# Altium footprint library 插座.PcbLib: 91 footprints (part 5 of 6)
Each footprint in its own frame and in the unit in brackets; x right, y up, seen from the top. Pads: shape width x height; smd on the part's side, far side on the other; paste and mask are expansions set on the pad; w line width, h text height; cw(c..) or ccw(c..) is an arc to the next point about the centre after c.
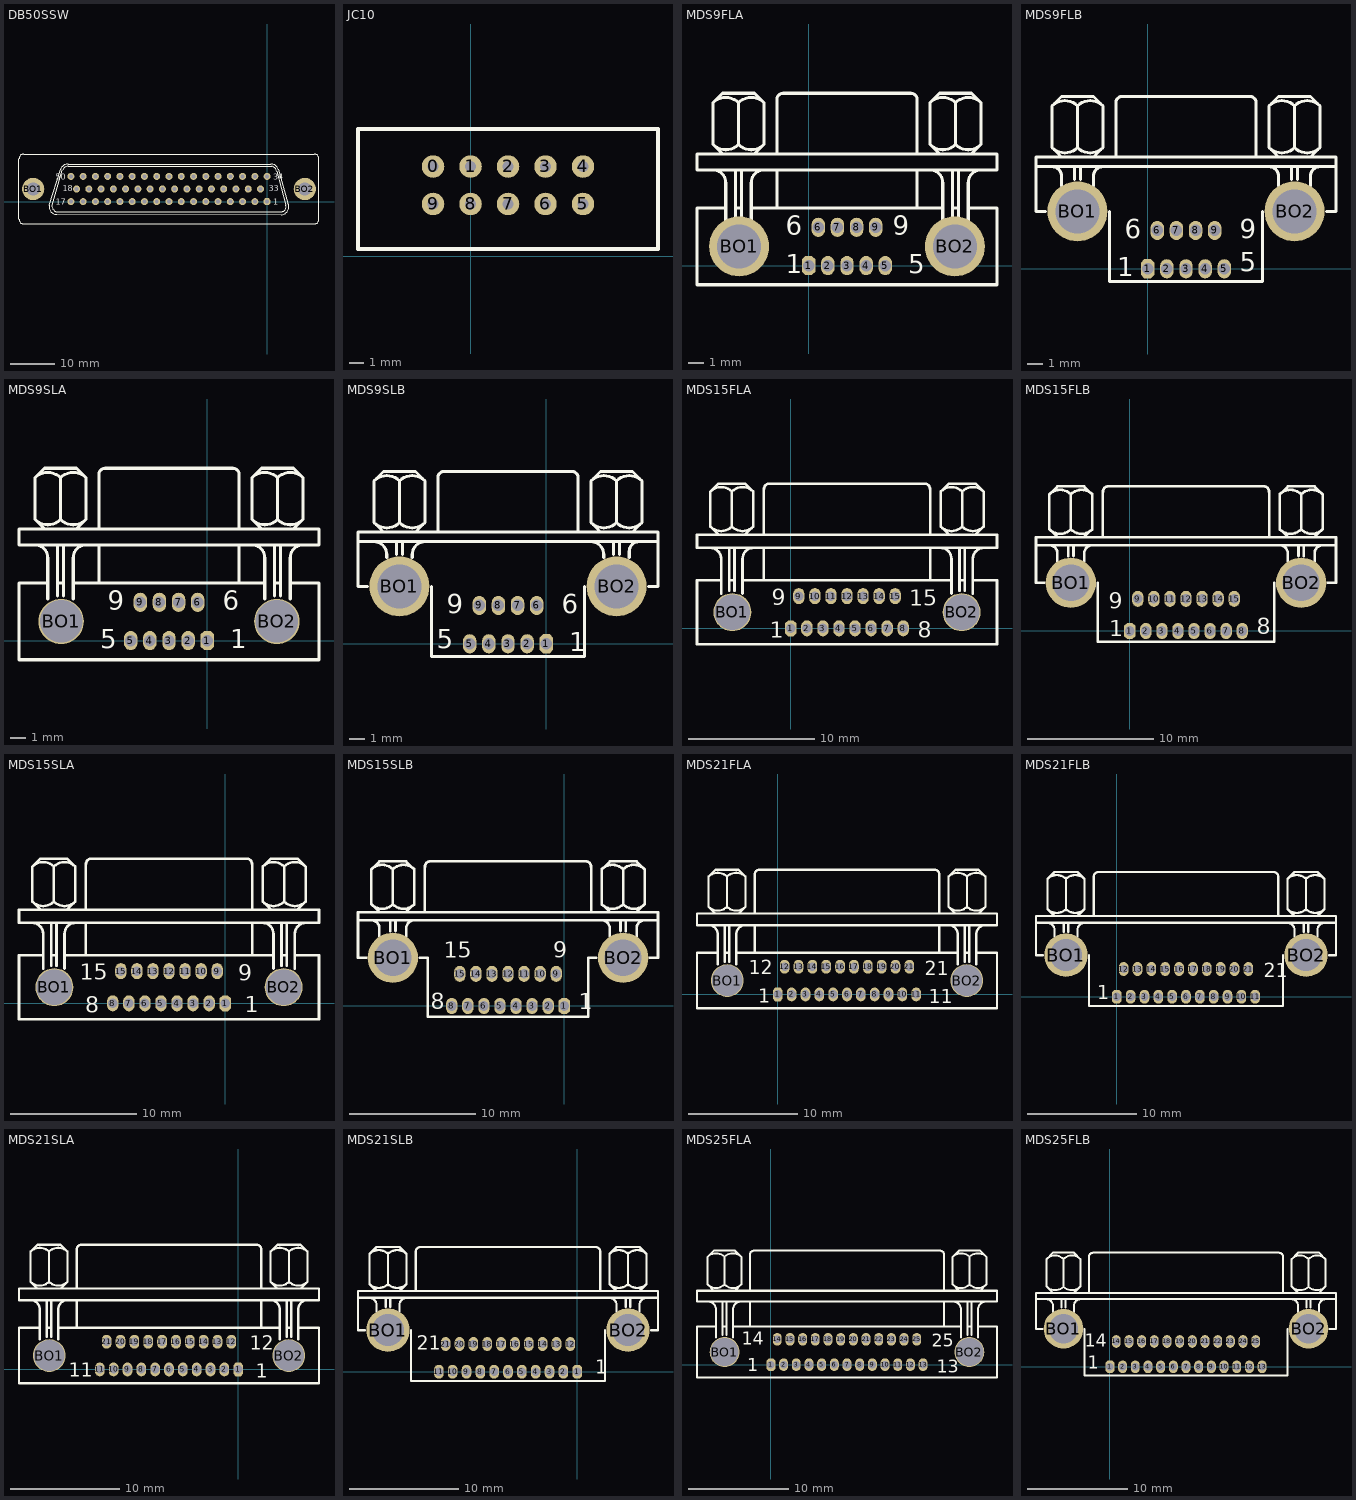
[diagram p4: the footprints below, top view; thin cyan lines are the x and y axes]

## DB50SSW [mil]
pads (52):
  oct 62x62 hole 35: 1(0,0)
  round 62 hole 35: 2(-108.33,0) 3(-216.67,0) 4(-325,0) 5(-433.33,0) 6(-541.67,0) 7(-650,0) 8(-758.33,0) 9(-866.67,0) 10(-975,0) 11(-1083.33,0) 12(-1191.67,0) 13(-1300,0) 14(-1408.33,0) 15(-1516.67,0) 16(-1625,0) 17(-1733.33,0) 18(-1683.33,111.67) 19(-1575,111.67) 20(-1466.67,111.67) 21(-1358.33,111.67) 22(-1250,111.67) 23(-1141.67,111.67) 24(-1033.33,111.67) 25(-925,111.67) 26(-816.67,111.67) 27(-708.33,111.67) 28(-600,111.67) 29(-491.67,111.67) 30(-383.33,111.67) 31(-275,111.67) 32(-166.67,111.67) 33(-58.33,111.67) 34(0,223.33) 35(-108.33,223.33) 36(-216.67,223.33) 37(-325,223.33) 38(-433.33,223.33) 39(-541.67,223.33) 40(-650,223.33) 41(-758.33,223.33) 42(-866.67,223.33) 43(-975,223.33) 44(-1083.33,223.33) 45(-1191.67,223.33) 46(-1300,223.33) 47(-1408.33,223.33) 48(-1516.67,223.33) 49(-1625,223.33) 50(-1733.33,223.33)
  round 196.67 hole 118.33: BO1(-2066.67,111.67) BO2(333.33,111.67)
TopOverlay:
  lines w8: -1923.33,-31.67 -1825,286.67 ; -1923.02,-30.54 ccw(c-1858.33,-46.67) -1858.33,-113.33 125,-115 ; -1900.21,-30.38 ccw(c-1850,-38.33) -1859.7,-88.23 ; -1900,-30 -1808.33,278.33 ; -1866.67,-88.33 133.33,-88.33 ; -1824.46,287.05 cw(c-1758.33,261.67) -1758.33,332.5 ; -1804.69,280.4 cw(c-1758.33,261.67) -1758.33,311.67 41.67,311.67 ; -1758.33,331.67 33.33,331.67 ; 33.33,332.5 cw(c33.33,261.67) 99.46,287.05 ; 40.41,312 cw(c33.33,261.67) 83.54,269.62 ; 83.33,270 166.67,-30 ; 100,286.67 183.33,-13.33 ; 125,-114.17 ccw(c125,-46.67) 183.46,-12.92 ; 133.11,-88.39 ccw(c125,-46.67) 164.41,-30.75 ; -2191.66,-155 ccw(c-2150,-155) -2150,-196.67 416.67,-196.67 ccw(c416.67,-155) 458.33,-155 458.33,378.33 ccw(c416.67,378.33) 416.67,420 -2150,420 ccw(c-2150,378.33) -2191.66,378.33 -2191.67,-155
  text "17" at -1866.67,-28.33 h50
  text "50" at -1866.67,191.67 h50
  text "18" at -1806.67,91.67 h50
  text "1" at 53.33,-28.33 h50
  text "33" at 13.33,91.67 h50
  text "34" at 53.33,191.67 h50

## JC10 [mil]
pads (10):
  round 60 hole 30: 0(-100,240) 1(0,240) 2(100,240) 3(200,240) 4(300,240) 5(300,140) 6(200,140) 7(100,140) 8(0,140) 9(-100,140)
TopOverlay:
  lines w10: -300,20 500,20 500,340 480,340 -300,340 -300,20

## MDS9FLA [mil]
pads (11):
  oct 35x50 hole 30: 1(0,0)
  oval 35x50 hole 30: 2(50,0) 3(100,0) 4(150,0) 5(200,0) 6(25,100) 7(75,100) 8(125,100) 9(175,100)
  round 156.67 hole 115: BO1(-181.67,50) BO2(381.67,50)
TopOverlay:
  lines w8: -250.25,316.41 ccw(c-216.67,350) -183.08,316.41 ; -250.25,425.25 cw(c-216.67,391.67) -183.08,425.25 ; -250,250 cw(c-250,216.67) -216.67,216.67 -216.67,108.33 ; -225,291.67 -250,316.67 -250,425 -225,450 -141.67,450 -116.67,425 -116.67,316.67 -141.67,291.67 ; -216.67,150 -291.67,150 -291.67,-50 491.67,-50 491.67,150 416.67,150 ; -191.67,116.67 -191.67,250 ; -191.67,150 -175,150 ; -183.59,316.41 ccw(c-150,350) -116.41,316.41 ; -183.59,425.25 cw(c-150,391.67) -116.41,425.25 ; -183.33,316.67 -183.33,425 ; -175,116.67 -175,250 ; -150,108.33 -150,216.67 cw(c-116.67,216.67) -116.67,250 ; -150,150 350,150 ; -83.33,150 -83.33,250 ; -83.33,291.67 -83.33,433.33 cw(c-66.67,433.33) -66.67,450 266.67,450 cw(c266.67,433.33) 283.33,433.33 283.33,291.67 275,291.67 ; 283.33,150 283.33,250 ; 316.41,316.41 ccw(c350,350) 383.59,316.41 ; 316.41,425.25 cw(c350,391.67) 383.59,425.25 ; 316.67,250 cw(c316.67,216.67) 350,216.67 350,108.33 ; 341.67,291.67 316.67,316.67 316.67,425 341.67,450 425,450 450,425 450,316.67 425,291.67 ; 375,116.67 375,250 ; 375,150 391.67,150 ; 383.08,316.41 ccw(c416.67,350) 450.25,316.41 ; 383.08,425.25 cw(c416.67,391.67) 450.25,425.25 ; 383.33,316.67 383.33,425 ; 391.67,116.67 391.67,250 ; 416.67,108.33 416.67,216.67 cw(c450,216.67) 450,250 ; -291.67,250 -291.67,291.67 491.67,291.67 491.67,250 -291.67,250
  text "6" at -60,80 h50
  text "5" at 260,-20 h50
  text "9" at 220,80 h50
  text "1" at -60,-20 h50

## MDS9FLB [mil]
pads (11):
  oct 35x50 hole 30: 1(0,0)
  oval 35x50 hole 30: 2(50,0) 3(100,0) 4(150,0) 5(200,0) 6(25,100) 7(75,100) 8(125,100) 9(175,100)
  round 156.67 hole 115: BO1(-183.33,150) BO2(383.33,150)
TopOverlay:
  lines w8: -266.67,150 -291.67,150 -291.67,266.67 ; -250.25,316.41 ccw(c-216.67,350) -183.08,316.41 ; -250.25,425.25 cw(c-216.67,391.67) -183.08,425.25 ; -250,266.67 cw(c-250,241.67) -225,241.67 -225,216.67 ; -225,291.67 -250,316.67 -250,425 -225,450 -141.67,450 -116.67,425 -116.67,316.67 -141.67,291.67 ; -191.67,233.33 -191.67,266.67 ; -183.59,316.41 ccw(c-150,350) -116.41,316.41 ; -183.59,425.25 cw(c-150,391.67) -116.41,425.25 ; -183.33,316.67 -183.33,425 ; -175,233.33 -175,266.67 ; -141.67,216.67 -141.67,241.67 cw(c-116.67,241.67) -116.67,266.67 ; -100,150 -100,-33.33 300,-33.33 300,150 ; -83.33,291.67 -83.33,433.33 cw(c-66.67,433.33) -66.67,450 266.67,450 cw(c266.67,433.33) 283.33,433.33 283.33,291.67 275,291.67 ; 316.41,316.41 ccw(c350,350) 383.59,316.41 ; 316.41,425.25 cw(c350,391.67) 383.59,425.25 ; 316.67,266.67 cw(c316.67,241.67) 341.67,241.67 341.67,216.67 ; 341.67,291.67 316.67,316.67 316.67,425 341.67,450 425,450 450,425 450,316.67 425,291.67 ; 375,233.33 375,266.67 ; 383.08,316.41 ccw(c416.67,350) 450.25,316.41 ; 383.08,425.25 cw(c416.67,391.67) 450.25,425.25 ; 383.33,316.67 383.33,425 ; 391.67,233.33 391.67,266.67 ; 425,216.67 425,241.67 cw(c450,241.67) 450,266.67 ; 466.67,150 491.67,150 491.67,266.67 ; -291.67,266.67 -291.67,291.67 491.67,291.67 491.67,266.67 ; -291.67,266.67 491.67,266.67
  text "9" at 240,80 h50
  text "6" at -60,80 h50
  text "1" at -80,-20 h50
  text "5" at 240.94,-6.59 h50

## MDS9SLA [mil]
pads (11):
  oct 35x50 hole 30: 1(0,0)
  oval 35x50 hole 30: 2(-50,0) 3(-100,0) 4(-150,0) 5(-200,0) 6(-25,100) 7(-75,100) 8(-125,100) 9(-175,100)
  round 118.33 hole 110.83: BO1(-381.67,50) BO2(181.67,50)
TopOverlay:
  lines w8: -450.25,316.41 ccw(c-416.67,350) -383.08,316.41 ; -450.25,425.25 cw(c-416.67,391.67) -383.08,425.25 ; -450,250 cw(c-450,216.67) -416.67,216.67 -416.67,108.33 ; -425,291.67 -450,316.67 -450,425 -425,450 -341.67,450 -316.67,425 -316.67,316.67 -341.67,291.67 ; -416.67,150 -491.67,150 -491.67,-50 291.67,-50 291.67,150 216.67,150 ; -391.67,116.67 -391.67,250 ; -391.67,150 -375,150 ; -383.59,316.41 ccw(c-350,350) -316.41,316.41 ; -383.59,425.25 cw(c-350,391.67) -316.41,425.25 ; -383.33,316.67 -383.33,425 ; -375,116.67 -375,250 ; -350,108.33 -350,216.67 cw(c-316.67,216.67) -316.67,250 ; -350,150 150,150 ; -283.33,150 -283.33,250 ; -283.33,291.67 -283.33,433.33 cw(c-266.67,433.33) -266.67,450 66.67,450 cw(c66.67,433.33) 83.33,433.33 83.33,291.67 75,291.67 ; 83.33,150 83.33,250 ; 116.41,316.41 ccw(c150,350) 183.59,316.41 ; 116.41,425.25 cw(c150,391.67) 183.59,425.25 ; 116.67,250 cw(c116.67,216.67) 150,216.67 150,108.33 ; 141.67,291.67 116.67,316.67 116.67,425 141.67,450 225,450 250,425 250,316.67 225,291.67 ; 175,116.67 175,250 ; 175,150 191.67,150 ; 183.08,316.41 ccw(c216.67,350) 250.25,316.41 ; 183.08,425.25 cw(c216.67,391.67) 250.25,425.25 ; 183.33,316.67 183.33,425 ; 191.67,116.67 191.67,250 ; 216.67,108.33 216.67,216.67 cw(c250,216.67) 250,250 ; -491.67,250 291.67,250 291.67,291.67 -491.67,291.67 -491.67,250
  text "6" at 40,80 h50
  text "9" at -260,80 h50
  text "5" at -280,-20 h50
  text "1" at 60,-20 h50

## MDS9SLB [mil]
pads (11):
  oct 35x50 hole 30: 1(0,0)
  oval 35x50 hole 30: 2(-50,0) 3(-100,0) 4(-150,0) 5(-200,0) 6(-25,100) 7(-75,100) 8(-125,100) 9(-175,100)
  round 156.67 hole 115: BO1(-383.33,150) BO2(183.33,150)
TopOverlay:
  lines w8: -466.67,150 -491.67,150 -491.67,266.67 ; -450.25,316.41 ccw(c-416.67,350) -383.08,316.41 ; -450.25,425.25 cw(c-416.67,391.67) -383.08,425.25 ; -450,266.67 cw(c-450,233.33) -416.67,233.33 -416.67,225 ; -425,291.67 -450,316.67 -450,425 -425,450 -341.67,450 -316.67,425 -316.67,316.67 -341.67,291.67 ; -391.67,233.33 -391.67,266.67 ; -383.59,316.41 ccw(c-350,350) -316.41,316.41 ; -383.59,425.25 cw(c-350,391.67) -316.41,425.25 ; -383.33,316.67 -383.33,425 ; -375,233.33 -375,266.67 ; -350,225 -350,233.33 cw(c-316.67,233.33) -316.67,266.67 ; -300,150 -300,-33.33 100,-33.33 100,150 ; -283.33,291.67 -283.33,433.33 cw(c-266.67,433.33) -266.67,450 66.67,450 cw(c66.67,433.33) 83.33,433.33 83.33,291.67 75,291.67 ; 116.41,316.41 ccw(c150,350) 183.59,316.41 ; 116.41,425.25 cw(c150,391.67) 183.59,425.25 ; 116.67,266.67 cw(c116.67,233.33) 150,233.33 150,225 ; 141.67,291.67 116.67,316.67 116.67,425 141.67,450 225,450 250,425 250,316.67 225,291.67 ; 175,233.33 175,266.67 ; 183.08,316.41 ccw(c216.67,350) 250.25,316.41 ; 183.08,425.25 cw(c216.67,391.67) 250.25,425.25 ; 183.33,316.67 183.33,425 ; 191.67,233.33 191.67,266.67 ; 216.67,225 216.67,241.67 cw(c241.67,241.67) 241.67,266.67 ; 266.67,150 291.67,150 291.67,266.67 ; -491.67,266.67 -491.67,291.67 291.67,291.67 291.67,266.67 ; -491.67,266.67 291.67,266.67
  text "5" at -286.05,-11.4 h50
  text "1" at 60,-20 h50
  text "9" at -260,80 h50
  text "6" at 40,80 h50

## MDS15FLA [mil]
pads (17):
  oct 35x50 hole 30: 1(0,0)
  oval 35x50 hole 30: 2(50,0) 3(100,0) 4(150,0) 5(200,0) 6(250,0) 7(300,0) 8(350,0) 9(25,100) 10(75,100) 11(125,100) 12(175,100) 13(225,100) 14(275,100) 15(325,100)
  round 118.33 hole 110.83: BO1(-181.67,50) BO2(531.67,50)
TopOverlay:
  lines w8: -250.25,316.41 ccw(c-216.67,350) -183.08,316.41 ; -250.25,425.25 cw(c-216.67,391.67) -183.08,425.25 ; -250,250 cw(c-250,216.67) -216.67,216.67 -216.67,108.33 ; -225,291.67 -250,316.67 -250,425 -225,450 -141.67,450 -116.67,425 -116.67,316.67 -141.67,291.67 ; -216.67,150 -291.67,150 -291.67,-50 641.67,-50 641.67,150 566.67,150 ; -191.67,116.67 -191.67,250 ; -191.67,150 -175,150 ; -183.59,316.41 ccw(c-150,350) -116.41,316.41 ; -183.59,425.25 cw(c-150,391.67) -116.41,425.25 ; -183.33,316.67 -183.33,425 ; -175,116.67 -175,250 ; -150,108.33 -150,216.67 cw(c-116.67,216.67) -116.67,250 ; -150,150 500,150 ; -83.33,150 -83.33,250 ; -83.33,291.67 -83.33,433.33 cw(c-66.67,433.33) -66.67,450 416.67,450 cw(c416.67,433.33) 433.33,433.33 433.33,291.67 425,291.67 ; 433.33,150 433.33,250 ; 466.41,316.41 ccw(c500,350) 533.59,316.41 ; 466.41,425.25 cw(c500,391.67) 533.59,425.25 ; 466.67,250 cw(c466.67,216.67) 500,216.67 500,108.33 ; 491.67,291.67 466.67,316.67 466.67,425 491.67,450 575,450 600,425 600,316.67 575,291.67 ; 525,116.67 525,250 ; 525,150 541.67,150 ; 533.08,316.41 ccw(c566.67,350) 600.25,316.41 ; 533.08,425.25 cw(c566.67,391.67) 600.25,425.25 ; 533.33,316.67 533.33,425 ; 541.67,116.67 541.67,250 ; 566.67,108.33 566.67,216.67 cw(c600,216.67) 600,250 ; -291.67,250 641.67,250 641.67,291.67 -291.67,291.67 -291.67,250
  text "15" at 368.7,69.7 h50
  text "8" at 395,-30 h50
  text "1" at -65,-30 h50
  text "9" at -58.7,72 h50

## MDS15FLB [mil]
pads (17):
  oct 35x50 hole 30: 1(0,0)
  oval 35x50 hole 30: 2(50,0) 3(100,0) 4(150,0) 5(200,0) 6(250,0) 7(300,0) 8(350,0) 9(25,100) 10(75,100) 11(125,100) 12(175,100) 13(225,100) 14(275,100) 15(325,100)
  round 156.67 hole 115: BO1(-183.33,150) BO2(533.33,150)
TopOverlay:
  lines w8: -266.67,150 -291.67,150 -291.67,266.67 ; -250.25,316.41 ccw(c-216.67,350) -183.08,316.41 ; -250.25,425.25 cw(c-216.67,391.67) -183.08,425.25 ; -250,266.67 cw(c-250,241.67) -225,241.67 -225,216.67 ; -225,291.67 -250,316.67 -250,425 -225,450 -141.67,450 -116.67,425 -116.67,316.67 -141.67,291.67 ; -191.67,233.33 -191.67,266.67 ; -183.59,316.41 ccw(c-150,350) -116.41,316.41 ; -183.59,425.25 cw(c-150,391.67) -116.41,425.25 ; -183.33,316.67 -183.33,425 ; -175,233.33 -175,266.67 ; -141.67,216.67 -141.67,241.67 cw(c-116.67,241.67) -116.67,266.67 ; -100,150 -100,-33.33 450,-33.33 450,150 ; -83.33,291.67 -83.33,433.33 cw(c-66.67,433.33) -66.67,450 416.67,450 cw(c416.67,433.33) 433.33,433.33 433.33,291.67 425,291.67 ; 466.41,316.41 ccw(c500,350) 533.59,316.41 ; 466.41,425.25 cw(c500,391.67) 533.59,425.25 ; 466.67,266.67 cw(c466.67,241.67) 491.67,241.67 491.67,216.67 ; 491.67,291.67 466.67,316.67 466.67,425 491.67,450 575,450 600,425 600,316.67 575,291.67 ; 525,233.33 525,266.67 ; 533.08,316.41 ccw(c566.67,350) 600.25,316.41 ; 533.08,425.25 cw(c566.67,391.67) 600.25,425.25 ; 533.33,316.67 533.33,425 ; 541.67,233.33 541.67,266.67 ; 575,216.67 575,241.67 cw(c600,241.67) 600,266.67 ; 616.67,150 641.67,150 641.67,266.67 ; -291.67,266.67 641.67,266.67 ; -291.67,266.67 -291.67,291.67 641.67,291.67 641.67,266.67
  text "8" at 395,-10 h50
  text "1" at -63.5,-16.8 h50
  text "9" at -64.7,69.7 h50

## MDS15SLA [mil]
pads (17):
  oct 35x50 hole 30: 1(0,0)
  oval 35x50 hole 30: 2(-50,0) 3(-100,0) 4(-150,0) 5(-200,0) 6(-250,0) 7(-300,0) 8(-350,0) 9(-25,100) 10(-75,100) 11(-125,100) 12(-175,100) 13(-225,100) 14(-275,100) 15(-325,100)
  round 118.33 hole 110.83: BO1(-531.67,50) BO2(181.67,50)
TopOverlay:
  lines w8: -600.25,316.41 ccw(c-566.67,350) -533.08,316.41 ; -600.25,425.25 cw(c-566.67,391.67) -533.08,425.25 ; -600,250 cw(c-600,216.67) -566.67,216.67 -566.67,108.33 ; -575,291.67 -600,316.67 -600,425 -575,450 -491.67,450 -466.67,425 -466.67,316.67 -491.67,291.67 ; -566.67,150 -641.67,150 -641.67,-50 291.67,-50 291.67,150 216.67,150 ; -541.67,116.67 -541.67,250 ; -541.67,150 -525,150 ; -533.59,316.41 ccw(c-500,350) -466.41,316.41 ; -533.59,425.25 cw(c-500,391.67) -466.41,425.25 ; -533.33,316.67 -533.33,425 ; -525,116.67 -525,250 ; -500,108.33 -500,216.67 cw(c-466.67,216.67) -466.67,250 ; -500,150 150,150 ; -433.33,150 -433.33,250 ; -433.33,291.67 -433.33,433.33 cw(c-416.67,433.33) -416.67,450 66.67,450 cw(c66.67,433.33) 83.33,433.33 83.33,291.67 75,291.67 ; 83.33,150 83.33,250 ; 116.41,316.41 ccw(c150,350) 183.59,316.41 ; 116.41,425.25 cw(c150,391.67) 183.59,425.25 ; 116.67,250 cw(c116.67,216.67) 150,216.67 150,108.33 ; 141.67,291.67 116.67,316.67 116.67,425 141.67,450 225,450 250,425 250,316.67 225,291.67 ; 175,116.67 175,250 ; 175,150 191.67,150 ; 183.08,316.41 ccw(c216.67,350) 250.25,316.41 ; 183.08,425.25 cw(c216.67,391.67) 250.25,425.25 ; 183.33,316.67 183.33,425 ; 191.67,116.67 191.67,250 ; 216.67,108.33 216.67,216.67 cw(c250,216.67) 250,250 ; -641.67,250 -641.67,291.67 291.67,291.67 291.67,250 -641.67,250
  text "15" at -452.5,73.2 h50
  text "8" at -435,-30 h50
  text "1" at 60.2,-28.6 h50
  text "9" at 41.2,69.7 h50

## MDS15SLB [mil]
pads (17):
  oct 35x50 hole 30: 1(0,0)
  oval 35x50 hole 30: 2(-50,0) 3(-100,0) 4(-150,0) 5(-200,0) 6(-250,0) 7(-300,0) 8(-350,0) 9(-25,100) 10(-75,100) 11(-125,100) 12(-175,100) 13(-225,100) 14(-275,100) 15(-325,100)
  round 156.67 hole 115: BO1(-533.33,150) BO2(183.33,150)
TopOverlay:
  lines w8: -616.67,150 -641.67,150 -641.67,266.67 ; -600.25,316.41 ccw(c-566.67,350) -533.08,316.41 ; -600.25,425.25 cw(c-566.67,391.67) -533.08,425.25 ; -600,266.67 cw(c-600,241.67) -575,241.67 -575,216.67 ; -575,291.67 -600,316.67 -600,425 -575,450 -491.67,450 -466.67,425 -466.67,316.67 -491.67,291.67 ; -541.67,233.33 -541.67,266.67 ; -533.59,316.41 ccw(c-500,350) -466.41,316.41 ; -533.59,425.25 cw(c-500,391.67) -466.41,425.25 ; -533.33,316.67 -533.33,425 ; -525,233.33 -525,266.67 ; -491.67,216.67 -491.67,241.67 cw(c-466.67,241.67) -466.67,266.67 ; -450,150 -425,150 -425,-33.33 75,-33.33 75,150 100,150 ; -433.33,291.67 -433.33,433.33 cw(c-416.67,433.33) -416.67,450 66.67,450 cw(c66.67,433.33) 83.33,433.33 83.33,291.67 75,291.67 ; 116.41,316.41 ccw(c150,350) 183.59,316.41 ; 116.41,425.25 cw(c150,391.67) 183.59,425.25 ; 116.67,266.67 cw(c116.67,241.67) 141.67,241.67 141.67,216.67 ; 141.67,291.67 116.67,316.67 116.67,425 141.67,450 225,450 250,425 250,316.67 225,291.67 ; 175,233.33 175,266.67 ; 183.08,316.41 ccw(c216.67,350) 250.25,316.41 ; 183.08,425.25 cw(c216.67,391.67) 250.25,425.25 ; 183.33,316.67 183.33,425 ; 191.67,233.33 191.67,266.67 ; 225,216.67 225,241.67 cw(c250,241.67) 250,266.67 ; 266.67,150 291.67,150 291.67,266.67 ; -641.67,266.67 291.67,266.67 ; -641.67,266.67 -641.67,291.67 291.67,291.67 291.67,266.67
  text "9" at -35,150 h50
  text "1" at 45,-10 h50
  text "8" at -415,-10 h50
  text "15" at -375,150 h50

## MDS21FLA [mil]
pads (23):
  oct 35x50 hole 30: 1(0,0)
  oval 35x50 hole 30: 2(50,0) 3(100,0) 4(150,0) 5(200,0) 6(250,0) 7(300,0) 8(350,0) 9(400,0) 10(450,0) 11(500,0) 12(25,100) 13(75,100) 14(125,100) 15(175,100) 16(225,100) 17(275,100) 18(325,100) 19(375,100) 20(425,100) 21(475,100)
  round 118.33 hole 110.83: BO1(-182.5,50) BO2(682.5,50)
TopOverlay:
  lines w8: -250.25,316.41 ccw(c-216.67,350) -183.08,316.41 ; -250.25,425.25 cw(c-216.67,391.67) -183.08,425.25 ; -250,250 cw(c-250,216.67) -216.67,216.67 -216.67,108.33 ; -225,291.67 -250,316.67 -250,425 -225,450 -141.67,450 -116.67,425 -116.67,316.67 -141.67,291.67 ; -216.67,150 -291.67,150 -291.67,-50 791.67,-50 791.67,150 716.67,150 ; -191.67,116.67 -191.67,250 ; -191.67,150 -175,150 ; -183.59,316.41 ccw(c-150,350) -116.41,316.41 ; -183.59,425.25 cw(c-150,391.67) -116.41,425.25 ; -183.33,316.67 -183.33,425 ; -175,116.67 -175,250 ; -150,108.33 -150,216.67 cw(c-116.67,216.67) -116.67,250 ; -150,150 241.67,150 650,150 ; -83.33,150 -83.33,250 ; -83.33,291.67 -83.33,433.33 cw(c-66.67,433.33) -66.67,450 566.67,450 cw(c566.67,433.33) 583.33,433.33 583.33,291.67 ; 583.33,150 583.33,250 ; 616.41,316.41 ccw(c650,350) 683.59,316.41 ; 616.41,425.25 cw(c650,391.67) 683.59,425.25 ; 616.67,250 cw(c616.67,216.67) 650,216.67 650,108.33 ; 641.67,291.67 616.67,316.67 616.67,425 641.67,450 725,450 750,425 750,316.67 725,291.67 ; 675,116.67 675,250 ; 675,150 691.67,150 ; 683.08,316.41 ccw(c716.67,350) 750.25,316.41 ; 683.08,425.25 cw(c716.67,391.67) 750.25,425.25 ; 683.33,316.67 683.33,425 ; 691.67,116.67 691.67,250 ; 716.67,108.33 716.67,216.67 cw(c750,216.67) 750,250 ; -291.67,250 791.67,250 791.67,291.67 -291.67,291.67 -291.67,250
  text "12" at -104.7,72.8 h50
  text "1" at -70,-30 h50
  text "11" at 546,-32.9 h50
  text "21" at 530,70 h50

## MDS21FLB [mil]
pads (23):
  oct 35x50 hole 30: 1(0,0)
  oval 35x50 hole 30: 2(50,0) 3(100,0) 4(150,0) 5(200,0) 6(250,0) 7(300,0) 8(350,0) 9(400,0) 10(450,0) 11(500,0) 12(25,100) 13(75,100) 14(125,100) 15(175,100) 16(225,100) 17(275,100) 18(325,100) 19(375,100) 20(425,100) 21(475,100)
  round 156.67 hole 115: BO1(-183.33,150) BO2(683.33,150)
TopOverlay:
  lines w8: -266.67,150 -291.67,150 -291.67,266.67 ; -250.25,316.41 ccw(c-216.67,350) -183.08,316.41 ; -250.25,425.25 cw(c-216.67,391.67) -183.08,425.25 ; -250,266.67 cw(c-250,241.67) -225,241.67 -225,216.67 ; -225,291.67 -250,316.67 -250,425 -225,450 -141.67,450 -116.67,425 -116.67,316.67 -141.67,291.67 ; -191.67,233.33 -191.67,266.67 ; -183.59,316.41 ccw(c-150,350) -116.41,316.41 ; -183.59,425.25 cw(c-150,391.67) -116.41,425.25 ; -183.33,316.67 -183.33,425 ; -175,233.33 -175,266.67 ; -141.67,216.67 -141.67,241.67 cw(c-116.67,241.67) -116.67,266.67 ; -100,150 -100,-33.33 600,-33.33 600,150 ; -83.33,291.67 -83.33,433.33 cw(c-66.67,433.33) -66.67,450 566.67,450 cw(c566.67,433.33) 583.33,433.33 583.33,291.67 ; 616.41,316.41 ccw(c650,350) 683.59,316.41 ; 616.41,425.25 cw(c650,391.67) 683.59,425.25 ; 616.67,266.67 cw(c616.67,241.67) 641.67,241.67 641.67,216.67 ; 641.67,291.67 616.67,316.67 616.67,425 641.67,450 725,450 750,425 750,316.67 725,291.67 ; 675,233.33 675,266.67 ; 683.08,316.41 ccw(c716.67,350) 750.25,316.41 ; 683.08,425.25 cw(c716.67,391.67) 750.25,425.25 ; 683.33,316.67 683.33,425 ; 691.67,233.33 691.67,266.67 ; 725,216.67 725,241.67 cw(c750,241.67) 750,266.67 ; 766.67,150 791.67,150 791.67,266.67 ; -291.67,266.67 791.67,266.67 ; -291.67,266.67 -291.67,291.67 791.67,291.67 791.67,266.67
  text "1" at -70,-10 h50
  text "21" at 530,70 h50

## MDS21SLA [mil]
pads (23):
  oct 35x50 hole 30: 1(0,0)
  oval 35x50 hole 30: 2(-50,0) 3(-100,0) 4(-150,0) 5(-200,0) 6(-250,0) 7(-300,0) 8(-350,0) 9(-400,0) 10(-450,0) 11(-500,0) 12(-25,100) 13(-75,100) 14(-125,100) 15(-175,100) 16(-225,100) 17(-275,100) 18(-325,100) 19(-375,100) 20(-425,100) 21(-475,100)
  round 118.33 hole 110.83: BO1(-682.5,50) BO2(182.5,50)
TopOverlay:
  lines w8: -750.25,316.41 ccw(c-716.67,350) -683.08,316.41 ; -750.25,425.25 cw(c-716.67,391.67) -683.08,425.25 ; -750,250 cw(c-750,216.67) -716.67,216.67 -716.67,108.33 ; -725,291.67 -750,316.67 -750,425 -725,450 -641.67,450 -616.67,425 -616.67,316.67 -641.67,291.67 ; -716.67,150 -791.67,150 -791.67,-50 291.67,-50 291.67,150 216.67,150 ; -691.67,116.67 -691.67,250 ; -691.67,150 -675,150 ; -683.59,316.41 ccw(c-650,350) -616.41,316.41 ; -683.59,425.25 cw(c-650,391.67) -616.41,425.25 ; -683.33,316.67 -683.33,425 ; -675,116.67 -675,250 ; -650,108.33 -650,216.67 cw(c-616.67,216.67) -616.67,250 ; -650,150 -241.67,150 150,150 ; -583.33,150 -583.33,250 ; -583.33,291.67 -583.33,433.33 cw(c-566.67,433.33) -566.67,450 66.67,450 cw(c66.67,433.33) 83.33,433.33 83.33,291.67 ; 83.33,150 83.33,250 ; 116.41,316.41 ccw(c150,350) 183.59,316.41 ; 116.41,425.25 cw(c150,391.67) 183.59,425.25 ; 116.67,250 cw(c116.67,216.67) 150,216.67 150,108.33 ; 141.67,291.67 116.67,316.67 116.67,425 141.67,450 225,450 250,425 250,316.67 225,291.67 ; 175,116.67 175,250 ; 175,150 191.67,150 ; 183.08,316.41 ccw(c216.67,350) 250.25,316.41 ; 183.08,425.25 cw(c216.67,391.67) 250.25,425.25 ; 183.33,316.67 183.33,425 ; 191.67,116.67 191.67,250 ; 216.67,108.33 216.67,216.67 cw(c250,216.67) 250,250 ; -791.67,250 -791.67,291.67 291.67,291.67 291.67,250 -791.67,250
  text "12" at 41.9,70.1 h50
  text "1" at 62.5,-30.1 h50
  text "11" at -611.6,-26 h50

## MDS21SLB [mil]
pads (23):
  oct 35x50 hole 30: 1(0,0)
  oval 35x50 hole 30: 2(-50,0) 3(-100,0) 4(-150,0) 5(-200,0) 6(-250,0) 7(-300,0) 8(-350,0) 9(-400,0) 10(-450,0) 11(-500,0) 12(-25,100) 13(-75,100) 14(-125,100) 15(-175,100) 16(-225,100) 17(-275,100) 18(-325,100) 19(-375,100) 20(-425,100) 21(-475,100)
  round 156.67 hole 115: BO1(-683.33,150) BO2(183.33,150)
TopOverlay:
  lines w8: -791.67,266.67 291.67,266.67 ; -766.67,150 -791.67,150 -791.67,291.67 291.67,291.67 291.67,266.67 ; -750.25,316.41 ccw(c-716.67,350) -683.08,316.41 ; -750.25,425.25 cw(c-716.67,391.67) -683.08,425.25 ; -750,266.67 cw(c-750,241.67) -725,241.67 -725,216.67 ; -725,291.67 -750,316.67 -750,425 -725,450 -641.67,450 -616.67,425 -616.67,316.67 -641.67,291.67 ; -691.67,233.33 -691.67,266.67 ; -683.59,316.41 ccw(c-650,350) -616.41,316.41 ; -683.59,425.25 cw(c-650,391.67) -616.41,425.25 ; -683.33,316.67 -683.33,425 ; -675,233.33 -675,266.67 ; -641.67,216.67 -641.67,241.67 cw(c-616.67,241.67) -616.67,266.67 ; -600,150 -600,-33.33 100,-33.33 100,150 ; -583.33,291.67 -583.33,433.33 cw(c-566.67,433.33) -566.67,450 66.67,450 cw(c66.67,433.33) 83.33,433.33 83.33,291.67 ; 116.41,316.41 ccw(c150,350) 183.59,316.41 ; 116.41,425.25 cw(c150,391.67) 183.59,425.25 ; 116.67,266.67 cw(c116.67,241.67) 141.67,241.67 141.67,216.67 ; 141.67,291.67 116.67,316.67 116.67,425 141.67,450 225,450 250,425 250,316.67 225,291.67 ; 175,233.33 175,266.67 ; 183.08,316.41 ccw(c216.67,350) 250.25,316.41 ; 183.08,425.25 cw(c216.67,391.67) 250.25,425.25 ; 183.33,316.67 183.33,425 ; 191.67,233.33 191.67,266.67 ; 225,216.67 225,241.67 cw(c250,241.67) 250,266.67 ; 266.67,150 291.67,150 291.67,266.67
  text "1" at 65.2,-8.2 h50
  text "21" at -580,80 h50

## MDS25FLA [mil]
pads (27):
  oct 35x50 hole 30: 1(0,0)
  oval 35x50 hole 30: 2(50,0) 3(100,0) 4(150,0) 5(200,0) 6(250,0) 7(300,0) 8(350,0) 9(400,0) 10(450,0) 11(500,0) 12(550,0) 13(600,0) 14(25,100) 15(75,100) 16(125,100) 17(175,100) 18(225,100) 19(275,100) 20(325,100) 21(375,100) 22(425,100) 23(475,100) 24(525,100) 25(575,100)
  round 118.33 hole 110.83: BO1(-182.5,50) BO2(782.5,50)
TopOverlay:
  lines w8: -250.25,316.41 ccw(c-216.67,350) -183.08,316.41 ; -250.25,425.25 cw(c-216.67,391.67) -183.08,425.25 ; -250,250 cw(c-250,216.67) -216.67,216.67 -216.67,108.33 ; -225,291.67 -250,316.67 -250,425 -225,450 -141.67,450 -116.67,425 -116.67,316.67 -141.67,291.67 ; -216.67,150 -291.67,150 -291.67,-50 891.67,-50 891.67,150 816.67,150 ; -191.67,116.67 -191.67,250 ; -191.67,150 -175,150 ; -183.59,316.41 ccw(c-150,350) -116.41,316.41 ; -183.59,425.25 cw(c-150,391.67) -116.41,425.25 ; -183.33,316.67 -183.33,425 ; -175,116.67 -175,250 ; -150,108.33 -150,216.67 cw(c-116.67,216.67) -116.67,250 ; -150,150 291.67,150 750,150 ; -83.33,150 -83.33,250 ; -83.33,291.67 -83.33,433.33 cw(c-66.67,433.33) -66.67,450 666.67,450 cw(c666.67,433.33) 683.33,433.33 683.33,291.67 ; 683.33,150 683.33,250 ; 716.41,316.41 ccw(c750,350) 783.59,316.41 ; 716.41,425.25 cw(c750,391.67) 783.59,425.25 ; 716.67,250 cw(c716.67,216.67) 750,216.67 750,108.33 ; 741.67,291.67 716.67,316.67 716.67,425 741.67,450 825,450 850,425 850,316.67 825,291.67 ; 775,116.67 775,250 ; 775,150 791.67,150 ; 783.08,316.41 ccw(c816.67,350) 850.25,316.41 ; 783.08,425.25 cw(c816.67,391.67) 850.25,425.25 ; 783.33,316.67 783.33,425 ; 791.67,116.67 791.67,250 ; 816.67,108.33 816.67,216.67 cw(c850,216.67) 850,250 ; -291.67,250 -291.67,291.67 891.67,291.67 891.67,250 -291.67,250
  text "25" at 634.2,71 h50
  text "13" at 653.6,-30.9 h50
  text "1" at -92.6,-24.9 h50
  text "14" at -115.1,78.5 h50

## MDS25FLB [mil]
pads (27):
  oct 35x50 hole 30: 1(0,0)
  oval 35x50 hole 30: 2(50,0) 3(100,0) 4(150,0) 5(200,0) 6(250,0) 7(300,0) 8(350,0) 9(400,0) 10(450,0) 11(500,0) 12(550,0) 13(600,0) 14(25,100) 15(75,100) 16(125,100) 17(175,100) 18(225,100) 19(275,100) 20(325,100) 21(375,100) 22(425,100) 23(475,100) 24(525,100) 25(575,100)
  round 156.67 hole 115: BO1(-183.33,150) BO2(783.33,150)
TopOverlay:
  lines w8: -266.67,150 -291.67,150 -291.67,266.67 ; -250.25,316.41 ccw(c-216.67,350) -183.08,316.41 ; -250.25,425.25 cw(c-216.67,391.67) -183.08,425.25 ; -250,266.67 cw(c-250,241.67) -225,241.67 -225,216.67 ; -225,291.67 -250,316.67 -250,425 -225,450 -141.67,450 -116.67,425 -116.67,316.67 -141.67,291.67 ; -191.67,233.33 -191.67,266.67 ; -183.59,316.41 ccw(c-150,350) -116.41,316.41 ; -183.59,425.25 cw(c-150,391.67) -116.41,425.25 ; -183.33,316.67 -183.33,425 ; -175,233.33 -175,266.67 ; -141.67,216.67 -141.67,241.67 cw(c-116.67,241.67) -116.67,266.67 ; -100,150 -100,-33.33 700,-33.33 700,150 ; -83.33,291.67 -83.33,433.33 cw(c-66.67,433.33) -66.67,450 666.67,450 cw(c666.67,433.33) 683.33,433.33 683.33,291.67 ; 716.41,316.41 ccw(c750,350) 783.59,316.41 ; 716.41,425.25 cw(c750,391.67) 783.59,425.25 ; 716.67,266.67 cw(c716.67,241.67) 741.67,241.67 741.67,216.67 ; 741.67,291.67 716.67,316.67 716.67,425 741.67,450 825,450 850,425 850,316.67 825,291.67 ; 775,233.33 775,266.67 ; 783.08,316.41 ccw(c816.67,350) 850.25,316.41 ; 783.08,425.25 cw(c816.67,391.67) 850.25,425.25 ; 783.33,316.67 783.33,425 ; 791.67,233.33 791.67,266.67 ; 825,216.67 825,241.67 cw(c850,241.67) 850,266.67 ; 866.67,150 891.67,150 891.67,266.67 ; -291.67,266.67 891.67,266.67 ; -291.67,266.67 -291.67,291.67 891.67,291.67 891.67,266.67
  text "14" at -100,80 h50
  text "1" at -88.1,-7 h50